# Altium integrated library SnapEDA_Library.IntLib: 10 symbols
Pins are listed as number, name and electrical type; pins without a type are passive.

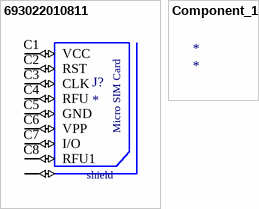
[diagram p0: symbols 693022010811 to Component_1]

## 693022010811
designator J?
<b>WR-CRD Micro SIM Card Connector Hinge Type <br> </b> <br> <b>KIND PROPERTIES  <br><br> </b>Quality Class:2 500 Mating cycles <br>Gender:Socket <br>Type:Hinge <br> <b>General Information <br><br> </b>Operating Temperature:-25 up to +85 В°C <br>Compliance:RoHS <br> <b>Electrical Properties <br><br> </b>IR 1:1 A <br>Working Voltage:15 V (AC) </b>Withstanding Voltage:500 V (AC) <br>Contact Resistance:30mО© <br> <br>Material Properties <br>Insulator MateriaL:LCP <br>Insulator Flammability Rating:UL94 V-0 <br>Color:Black <br>Contact Material:Copper Alloy <br>Contact Plating:Selective Gold <br>Contact Type:Stamped <br>Shielding Material:Stainless Steel <br>Shielding Plating:Nickel  <br><a href="https://www.we-online.de/katalog/media/o33064v209%20Family_WR-CRD_Micro_SIM_Hinge_8Pins_693022010811.jpg" title="Enlarge picture"> <img src="https://www.we-online.de/katalog/media/o33064v209%20Family_WR-CRD_Micro_SIM_Hinge_8Pins_693022010811.jpg"  width="320"></a><p> Details see: <a href="https://www.we-online.de/katalog/en/CRD_MICRO_SIM/">https://www.we-online.de/katalog/en/CRD_MICRO_SIM/</a><p>  Created by Yingchun,Shan  2019-11-21<br> 2019 (C) WГјrth Elektronik; MF: {'manufacturer': u'Wurth Electronics'}; Value: *; MP: 693022010811; Availability: Unavailable; Package: None; Price: None
footprint 693022010811
pins: C1 VCC (io), C2 RST (io), C3 CLK (io), C4 RFU (io), C5 GND (io), C6 VPP (io), C7 I/O (io), C8 RFU1 (io), S1 SHIELD (io), S2 SHIELD (io)
text: Micro SIM Card; shield

## Component_1
designator *


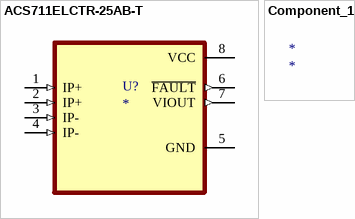
[diagram p1: symbols ACS711ELCTR-25AB-T to Component_1]

## ACS711ELCTR-25AB-T
designator U?
MF: {'manufacturer': u'Allegro MicroSystems LLC'}; MP: ACS711ELCTR-25AB-T; Price: None; Value: *; Package: None; Availability: Unavailable
footprint SOIC127P600X175-8N
pins: 1 IP+ (in), 2 IP+ (in), 3 IP- (in), 4 IP- (in), 5 GND (power), 6 ~{FAULT} (out), 7 VIOUT (out), 8 VCC (power)

## Component_1
designator *


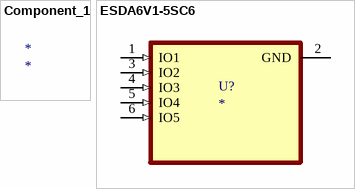
[diagram p2: symbols Component_1 to ESDA6V1-5SC6]

## Component_1
designator *

## ESDA6V1-5SC6
designator U?
MP: ESDA6V1-5SC6; MF: {'manufacturer': u'STMicroelectronics'}; Value: *; Availability: Unavailable; Package: None; Price: None
footprint SOT95P280X145-6N
pins: 1 IO1 (in), 2 GND (power), 3 IO2 (in), 4 IO3 (in), 5 IO4 (in), 6 IO5 (in)


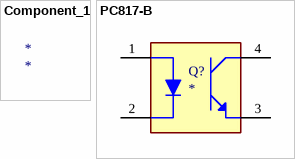
[diagram p3: symbols Component_1 to PC817-B]

## Component_1
designator *

## PC817-B
designator Q?
High Density Mounting Type Photocoupler; MF: {'manufacturer': u'American Bright'}; MP: PC817-B; Value: *; Availability: Unavailable; Package: None; Price: None
footprint DIP762W50P254L650H455Q4B
pins: 1 ANODE, 2 CATHODE, 3 EMITTER, 4 COLLECTOR


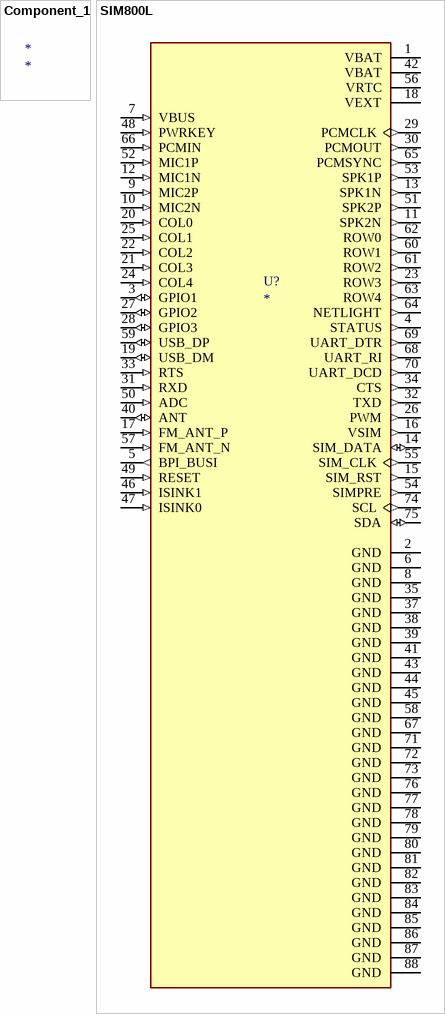
[diagram p4: symbols Component_1 to SIM800L]

## Component_1
designator *

## SIM800L
designator U?
SIM8000L. Quad-band GSM/GPRS Module; MF: {'manufacturer': u'Simcom'}; MP: SIM800L; Package: None; Value: *; Availability: Unavailable; Price: None
footprint MODULE_SIM800L
pins: 1 VBAT (power), 2 GND (power), 3 GPIO1 (io), 4 STATUS (out), 5 BPI_BUSI (out), 6 GND (power), 7 VBUS (in), 8 GND (power), 9 MIC2P (in), 10 MIC2N (in), 11 SPK2N (out), 12 MIC1N (in), 13 SPK1N (out), 14 SIM_DATA (io), 15 SIM_RST (out), 16 VSIM (out), 17 FM_ANT_P (in), 18 VEXT (power), 19 USB_DM (io), 20 COL0 (in), 21 COL3 (in), 22 COL2 (in), 23 ROW3 (out), 24 COL4 (in), 25 COL1 (in), 26 PWM (out), 27 GPIO2 (io), 28 GPIO3 (io), 29 PCMCLK (out), 30 PCMOUT (out), 31 RXD (in), 32 TXD (out), 33 RTS (in), 34 CTS (out), 35 GND (power), 37 GND (power), 38 GND (power), 39 GND (power), 40 ANT (io), 41 GND (power), 42 VBAT (power), 43 GND (power), 44 GND (power), 45 GND (power), 46 ISINK1 (in), 47 ISINK0 (in), 48 PWRKEY (in), 49 RESET (in), 50 ADC (in), 51 SPK2P (out), 52 MIC1P (in), 53 SPK1P (out), 54 SIMPRE (out), 55 SIM_CLK (out), 56 VRTC (power), 57 FM_ANT_N (in), 58 GND (power), 59 USB_DP (io), 60 ROW1 (out), 61 ROW2 (out), 62 ROW0 (out), 63 ROW4 (out), 64 NETLIGHT (out), 65 PCMSYNC (out), 66 PCMIN (in), 67 GND (power), 68 UART_RI (out), 69 UART_DTR (out), 70 UART_DCD (out), 71 GND (power), 72 GND (power), 73 GND (power), 74 SCL (out), 75 SDA (io), 76 GND (power), 77 GND (power), 78 GND (power), 79 GND (power), 80 GND (power), 81 GND (power), 82 GND (power), 83 GND (power), 84 GND (power), 85 GND (power), 86 GND (power), 87 GND (power), 88 GND (power)